# EAGLE library part IC-TTY-MAX232 (library mylib)
IC-TTY-MAX232 : RS232 TRANSEIVER Packages : -DIP : 2.54 x 16 x 300mil -FLAT : 1.27 x 16 x 150mil
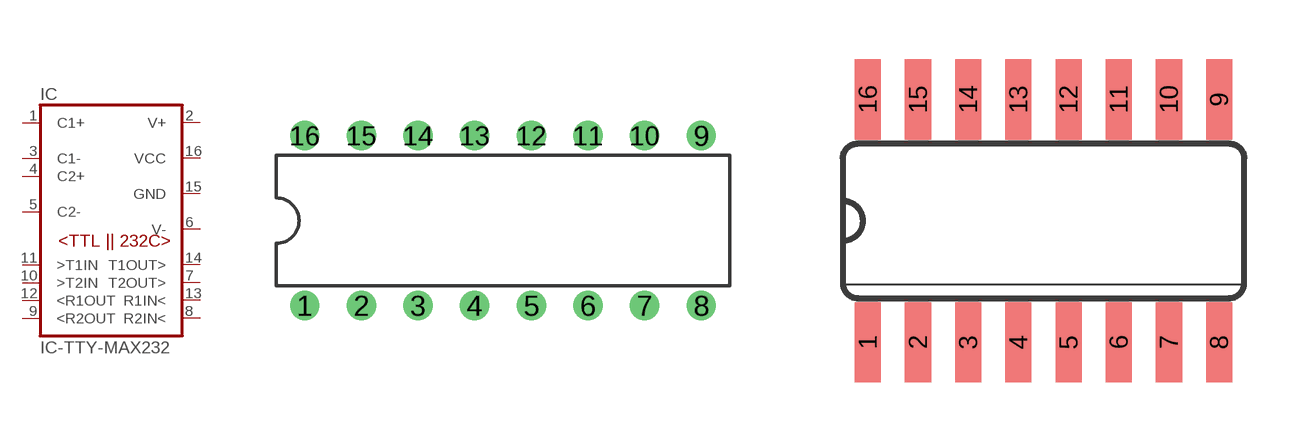
[diagram p52: symbol with the pads of IC-SOCKET-DIL-16; footprints IC-SOCKET-DIL-16, IC-16-1.27-150MIL]

Designator prefix IC

## IC-TTY-MAX232-DIP  [IC-SOCKET-DIL-16]
1  C1+
2  V+
3  C1-
4  C2+
5  C2-
6  V-
7  T2OUT>  out
8  R2IN<  in
9  <R2OUT  out
10  >T2IN  in
11  >T1IN  in
12  <R1OUT  out
13  R1IN<  in
14  T1OUT>  out
15  GND  pwr
16  VCC  pwr

## IC-TTY-MAX232-FLAT  [IC-16-1.27-150MIL]
Pads as for IC-SOCKET-DIL-16

## Footprint IC-SOCKET-DIL-16 (pad centres in mm)
Dual In Line Package
drill 0.813: 1 -8.89,-3.81; 2 -6.35,-3.81; 3 -3.81,-3.81; 4 -1.27,-3.81; 5 1.27,-3.81; 6 3.81,-3.81; 7 6.35,-3.81; 8 8.89,-3.81; 9 8.89,3.81; 10 6.35,3.81; 11 3.81,3.81; 12 1.27,3.81; 13 -1.27,3.81; 14 -3.81,3.81; 15 -6.35,3.81; 16 -8.89,3.81

## Footprint IC-16-1.27-150MIL (pad centres in mm)
Small Outline Package .150 SIOC Source: http://www.maxim-ic.com/package_drawings/21-0041B.pdf
smd 0.66 x 2.032: 1 -4.445,-3.073; 2 -3.175,-3.073; 3 -1.905,-3.073; 4 -0.635,-3.073; 5 0.635,-3.073; 6 1.905,-3.073; 7 3.175,-3.073; 8 4.445,-3.073; 9 4.445,3.073; 10 3.175,3.073; 11 1.905,3.073; 12 0.635,3.073; 13 -0.635,3.073; 14 -1.905,3.073; 15 -3.175,3.073; 16 -4.445,3.073